# Altium schematic symbol library PIF_STM32F103C8T6.SchLib: 1 symbol
Pins are listed as number, name and electrical type; pins without a type are passive.

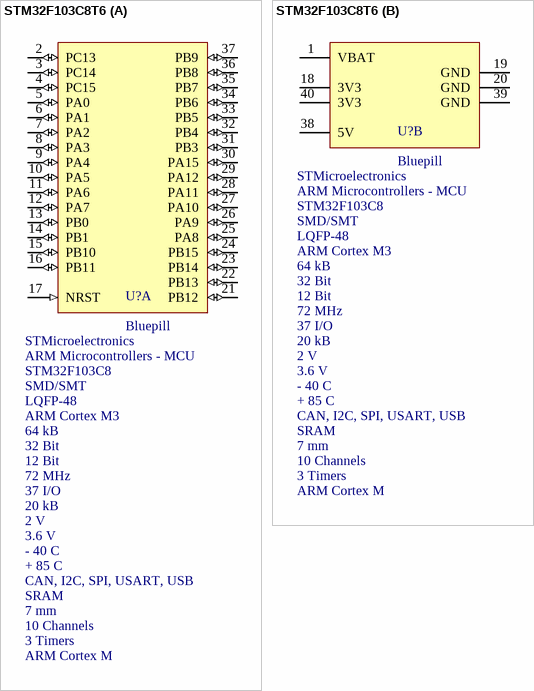
[diagram p0: symbol STM32F103C8T6]

## STM32F103C8T6
designator U?, comment Bluepill  Manufacturer: STMicroelectronics  Product Category: ARM Microcontrollers - MCU  Series: STM32F103C8  Mounting Style: SMD/SMT  Package/Case: LQFP-48  Core: ARM Cortex M3  Program Memory Size: 64 kB  Data Bus Width: 32 Bit  ADC Resolution: 12 Bit  Maximum Clock Frequency: 72 MHz  Number of I/Os: 37 I/O  Data RAM Size: 20 kB  Supply Voltage - Min: 2 V  Supply Voltage - Max: 3.6 V  Minimum Operating Temperature: - 40 C  Maximum Operating Temperature: + 85 C  Interface Type: CAN, I2C, SPI, USART, USB  Data RAM Type: SRAM  Length: 7 mm  Number of ADC Channels: 10 Channels  Number of Timers/Counters: 3 Timers  Processor Series: ARM Cortex M
STM32F103C8T6, mbed-Enabled Development Bluepill STM32F1 ARM® Cortex® - M3 MCU 32-Bit Embedded Evaluation Board
footprint STM32F103C8T6 (Bluepill)
part A pins: 2 PC13 (io), 3 PC14 (io), 4 PC15 (io), 5 PA0 (io), 6 PA1 (io), 7 PA2 (io), 8 PA3 (io), 9 PA4 (io), 10 PA5 (io), 11 PA6 (io), 12 PA7 (io), 13 PB0 (io), 14 PB1 (io), 15 PB10 (io), 16 PB11 (io), 17 NRST (in), 21 PB12 (io), 22 PB13 (io), 23 PB14 (io), 24 PB15 (io), 25 PA8 (io), 26 PA9 (io), 27 PA10 (io), 28 PA11 (io), 29 PA12 (io), 30 PA15 (io), 31 PB3 (io), 32 PB4 (io), 33 PB5 (io), 34 PB6 (io), 35 PB7 (io), 36 PB8 (io), 37 PB9 (io)
part B pins: 1 VBAT (power), 18 3V3 (power), 19 GND (power), 20 GND (power), 38 5V (power), 39 GND (power), 40 3V3 (power)